# EAGLE library part MC68881FN (library micro-mc68000)
68xxx PROCESSOR
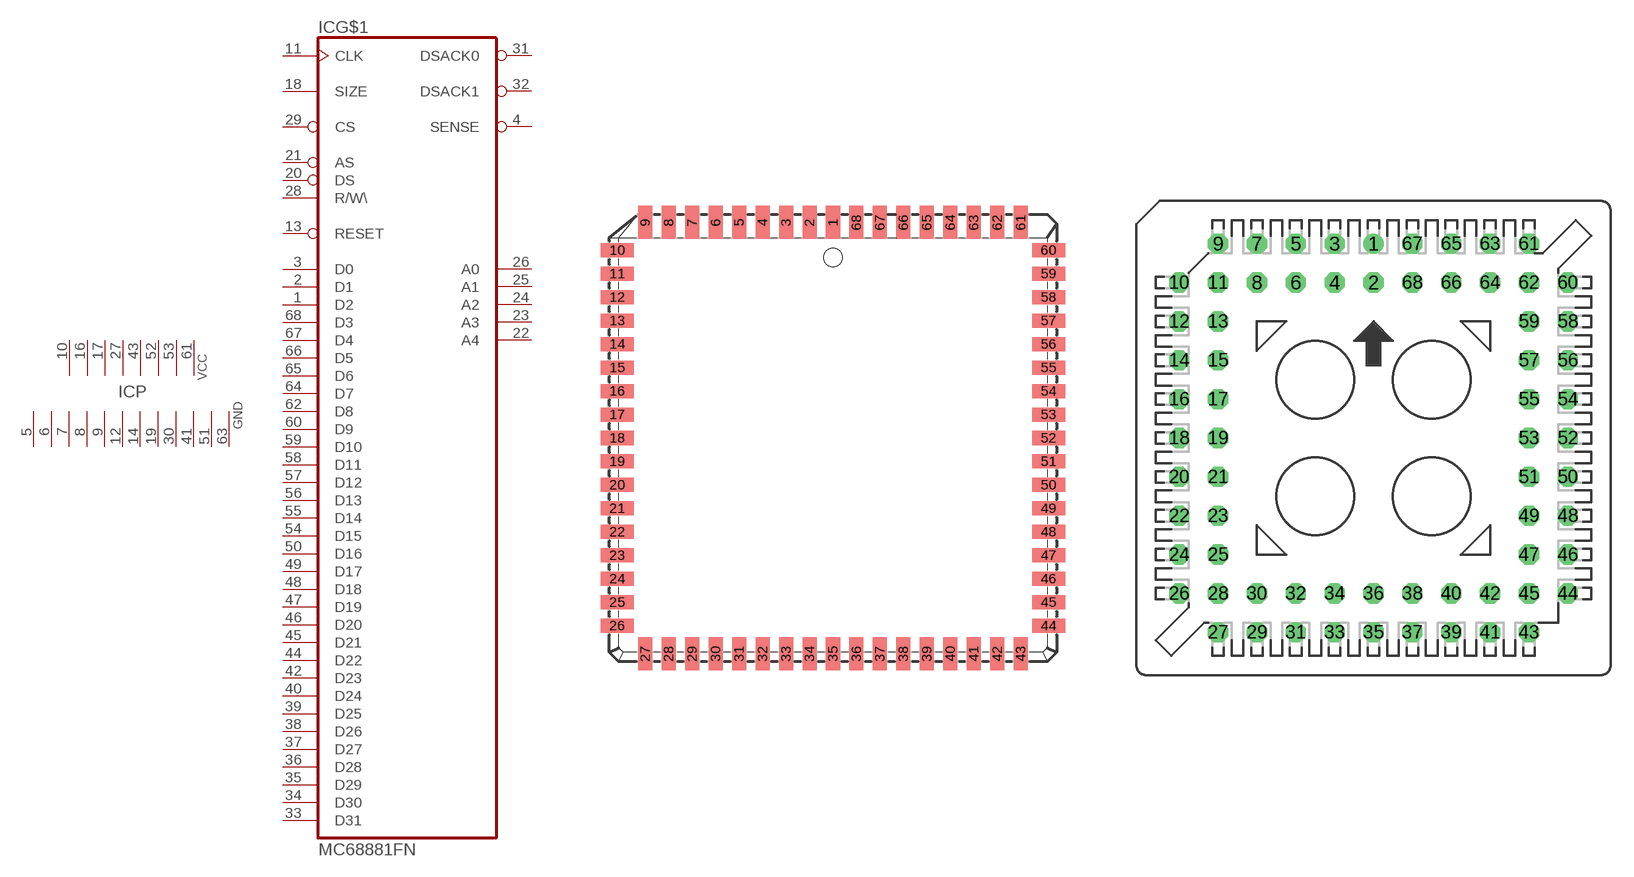
[diagram p13: symbol with the pads of PLCC68; footprints PLCC68, PLCC68-S]

Designator prefix IC; gates G$1=68881 P=8PWR12GN

## MC68881FN  [PLCC68]
1  G$1:D2
2  G$1:D1
3  G$1:D0
4  G$1:SENSE
5  P:GND  pwr
6  P:GND  pwr
7  P:GND  pwr
8  P:GND  pwr
9  P:GND  pwr
10  P:VCC  pwr
11  G$1:CLK  in
12  P:GND  pwr
13  G$1:RESET  in
14  P:GND  pwr
16  P:VCC  pwr
17  P:VCC  pwr
18  G$1:SIZE  in
19  P:GND  pwr
20  G$1:DS  in
21  G$1:AS  in
22  G$1:A4  in
23  G$1:A3  in
24  G$1:A2  in
25  G$1:A1  in
26  G$1:A0  in
27  P:VCC  pwr
28  G$1:R/W\  in
29  G$1:CS  in
30  P:GND  pwr
31  G$1:DSACK0  out
32  G$1:DSACK1  out
33  G$1:D31
34  G$1:D30
35  G$1:D29
36  G$1:D28
37  G$1:D27
38  G$1:D26
39  G$1:D25
40  G$1:D24
41  P:GND  pwr
42  G$1:D23
43  P:VCC  pwr
44  G$1:D22
45  G$1:D21
46  G$1:D20
47  G$1:D19
48  G$1:D18
49  G$1:D17
50  G$1:D16
51  P:GND  pwr
52  P:VCC  pwr
53  P:VCC  pwr
54  G$1:D15
55  G$1:D14
56  G$1:D13
57  G$1:D12
58  G$1:D11
59  G$1:D10
60  G$1:D9
61  P:VCC  pwr
62  G$1:D8
63  P:GND  pwr
64  G$1:D7
65  G$1:D6
66  G$1:D5
67  G$1:D4
68  G$1:D3

## MC68881FN-SOC  [PLCC68-S]
Pads as for PLCC68

## Footprint PLCC68 (pad centres in mm)
PLASTIC LEADED CHIP CARRIER square
smd 0.76 x 1.8: 1 0,11.67; 2 -1.27,11.67; 3 -2.54,11.67; 4 -3.81,11.67; 5 -5.08,11.67; 6 -6.35,11.67; 7 -7.62,11.67; 8 -8.89,11.67; 9 -10.16,11.67; 27 -10.16,-11.67; 28 -8.89,-11.67; 29 -7.62,-11.67; 30 -6.35,-11.67; 31 -5.08,-11.67; 32 -3.81,-11.67; 33 -2.54,-11.67; 34 -1.27,-11.67; 35 0,-11.67; 36 1.27,-11.67; 37 2.54,-11.67; 38 3.81,-11.67; 39 5.08,-11.67; 40 6.35,-11.67; 41 7.62,-11.67; 42 8.89,-11.67; 43 10.16,-11.67; 61 10.16,11.67; 62 8.89,11.67; 63 7.62,11.67; 64 6.35,11.67; 65 5.08,11.67; 66 3.81,11.67; 67 2.54,11.67; 68 1.27,11.67
smd 1.8 x 0.76: 10 -11.67,10.16; 11 -11.67,8.89; 12 -11.67,7.62; 13 -11.67,6.35; 14 -11.67,5.08; 15 -11.67,3.81; 16 -11.67,2.54; 17 -11.67,1.27; 18 -11.67,0; 19 -11.67,-1.27; 20 -11.67,-2.54; 21 -11.67,-3.81; 22 -11.67,-5.08; 23 -11.67,-6.35; 24 -11.67,-7.62; 25 -11.67,-8.89; 26 -11.67,-10.16; 44 11.67,-10.16; 45 11.67,-8.89; 46 11.67,-7.62; 47 11.67,-6.35; 48 11.67,-5.08; 49 11.67,-3.81; 50 11.67,-2.54; 51 11.67,-1.27; 52 11.67,0; 53 11.67,1.27; 54 11.67,2.54; 55 11.67,3.81; 56 11.67,5.08; 57 11.67,6.35; 58 11.67,7.62; 59 11.67,8.89; 60 11.67,10.16

## Footprint PLCC68-S (pad centres in mm)
PLCC Socked
drill 0.813 round: 1 0,12.7
drill 0.813 octagon: 2 0,10.16; 3 -2.54,12.7; 4 -2.54,10.16; 5 -5.08,12.7; 6 -5.08,10.16; 7 -7.62,12.7; 8 -7.62,10.16; 9 -10.16,12.7; 10 -12.7,10.16; 11 -10.16,10.16; 12 -12.7,7.62; 13 -10.16,7.62; 14 -12.7,5.08; 15 -10.16,5.08; 16 -12.7,2.54; 17 -10.16,2.54; 18 -12.7,0; 19 -10.16,0; 20 -12.7,-2.54; 21 -10.16,-2.54; 22 -12.7,-5.08; 23 -10.16,-5.08; 24 -12.7,-7.62; 25 -10.16,-7.62; 26 -12.7,-10.16; 27 -10.16,-12.7; 28 -10.16,-10.16; 29 -7.62,-12.7; 30 -7.62,-10.16; 31 -5.08,-12.7; 32 -5.08,-10.16; 33 -2.54,-12.7; 34 -2.54,-10.16; 35 0,-12.7; 36 0,-10.16; 37 2.54,-12.7; 38 2.54,-10.16; 39 5.08,-12.7; 40 5.08,-10.16; 41 7.62,-12.7; 42 7.62,-10.16; 43 10.16,-12.7; 44 12.7,-10.16; 45 10.16,-10.16; 46 12.7,-7.62; 47 10.16,-7.62; 48 12.7,-5.08; 49 10.16,-5.08; 50 12.7,-2.54; 51 10.16,-2.54; 52 12.7,0; 53 10.16,0; 54 12.7,2.54; 55 10.16,2.54; 56 12.7,5.08; 57 10.16,5.08; 58 12.7,7.62; 59 10.16,7.62; 60 12.7,10.16; 61 10.16,12.7; 62 10.16,10.16; 63 7.62,12.7; 64 7.62,10.16; 65 5.08,12.7; 66 5.08,10.16; 67 2.54,12.7; 68 2.54,10.16